# EAGLE library part 282837-6 (library RAMPS)
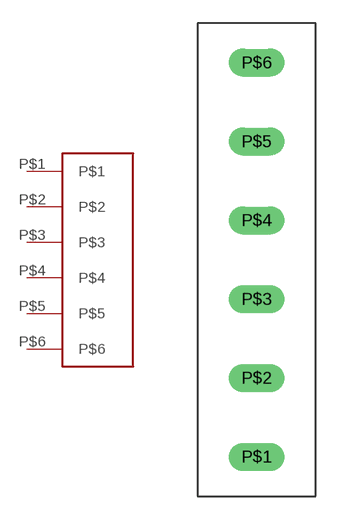
[diagram p3: symbol with the pads of 282837-6; footprint 282837-6]

Designator prefix -

## 282837-6  [282837-6]
P$1  P$1
P$2  P$2
P$3  P$3
P$4  P$4
P$5  P$5
P$6  P$6

## Footprint 282837-6 (pad centres in mm)
drill 1.2 long: P$1 0,-12.7; P$2 0,-7.62; P$3 0,-2.54; P$4 0,2.54; P$5 0,7.62; P$6 0,12.7